# EAGLE library part 74*686 (library 74xx-eu)
8-bit MAGNITUDE/IDENTITY COMPARATOR, totem pole
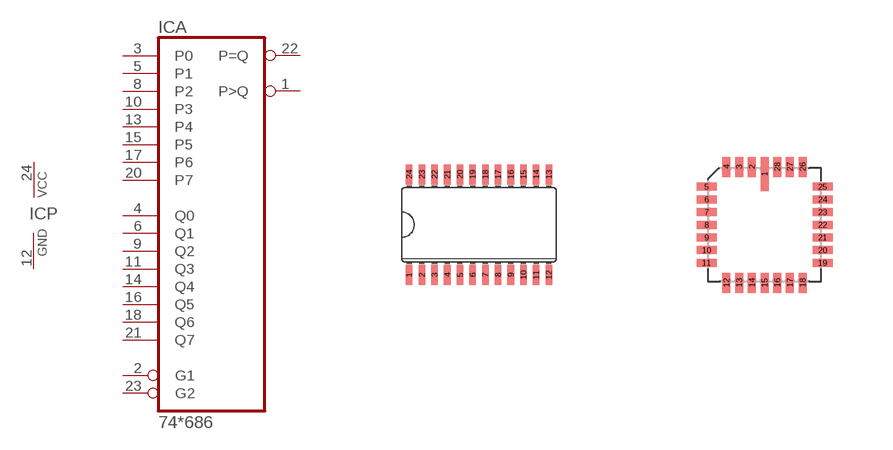
[diagram p278: symbol with the pads of SO24W; footprints SO24W, LCC28]

Designator prefix IC; gates A=74686 P=PWRN

## 74686DW, 74LS686DW  [SO24W]
1  A:P>Q  out
2  A:G1  in
3  A:P0  in
4  A:Q0  in
5  A:P1  in
6  A:Q1  in
8  A:P2  in
9  A:Q2  in
10  A:P3  in
11  A:Q3  in
12  P:GND  pwr
13  A:P4  in
14  A:Q4  in
15  A:P5  in
16  A:Q5  in
17  A:P6  in
18  A:Q6  in
20  A:P7  in
21  A:Q7  in
22  A:P=Q  out
23  A:G2  in
24  P:VCC  pwr

## 74686FK, 74LS686FK  [LCC28]
2  A:P>Q  out
3  A:G1  in
4  A:P0  in
5  A:Q0  in
6  A:P1  in
7  A:Q1  in
10  A:P2  in
11  A:Q2  in
12  A:P3  in
13  A:Q3  in
14  P:GND  pwr
16  A:P4  in
17  A:Q4  in
18  A:P5  in
19  A:Q5  in
20  A:P6  in
21  A:Q6  in
24  A:P7  in
25  A:Q7  in
26  A:P=Q  out
27  A:G2  in
28  P:VCC  pwr

## 74686N, 74LS686N  [DIL24-6]
Pads as for SO24W

## Footprint SO24W (pad centres in mm)
Wide Small Outline package 300 mil
smd 0.165 x 0.508: 1 -1.746,-1.257; 2 -1.429,-1.257; 3 -1.111,-1.257; 4 -0.794,-1.257; 5 -0.476,-1.257; 6 -0.159,-1.257; 7 0.159,-1.257; 8 0.476,-1.257; 9 0.794,-1.257; 10 1.111,-1.257; 11 1.429,-1.257; 12 1.746,-1.257; 13 1.746,1.257; 14 1.429,1.257; 15 1.111,1.257; 16 0.794,1.257; 17 0.476,1.257; 18 0.159,1.257; 19 -0.159,1.257; 20 -0.476,1.257; 21 -0.794,1.257; 22 -1.111,1.257; 23 -1.429,1.257; 24 -1.746,1.257

## Footprint LCC28 (pad centres in mm)
Leadless Chip Carrier Ceramic Package
smd 0.2 x 0.85: 1 0,1.275
smd 0.2 x 0.5: 2 -0.318,1.45; 3 -0.635,1.45; 4 -0.953,1.45; 12 -0.953,-1.45; 13 -0.635,-1.45; 14 -0.318,-1.45; 15 0,-1.45; 16 0.318,-1.45; 17 0.635,-1.45; 18 0.953,-1.45; 26 0.953,1.45; 27 0.635,1.45; 28 0.318,1.45
smd 0.5 x 0.2: 5 -1.45,0.953; 6 -1.45,0.635; 7 -1.45,0.318; 8 -1.45,0; 9 -1.45,-0.318; 10 -1.45,-0.635; 11 -1.45,-0.953; 19 1.45,-0.953; 20 1.45,-0.635; 21 1.45,-0.318; 22 1.45,0; 23 1.45,0.318; 24 1.45,0.635; 25 1.45,0.953

## Footprint DIL24-6 (pad centres in mm)
Dual In Line Package 0.6 inch
drill 0.203 long: 1 -3.493,-1.905; 2 -2.857,-1.905; 3 -2.223,-1.905; 4 -1.587,-1.905; 5 -0.953,-1.905; 6 -0.318,-1.905; 7 0.318,-1.905; 8 0.953,-1.905; 9 1.587,-1.905; 10 2.223,-1.905; 11 2.857,-1.905; 12 3.493,-1.905; 13 3.493,1.905; 14 2.857,1.905; 15 2.223,1.905; 16 1.587,1.905; 17 0.953,1.905; 18 0.318,1.905; 19 -0.318,1.905; 20 -0.953,1.905; 21 -1.587,1.905; 22 -2.223,1.905; 23 -2.857,1.905; 24 -3.493,1.905